# Altium footprint library ESP32WithoutAntenna.PcbLib: 1 footprints
Each footprint in its own frame and in the unit in brackets; x right, y up, seen from the top. Pads: shape width x height; smd on the part's side, far side on the other; paste and mask are expansions set on the pad; w line width, h text height; cw(c..) or ccw(c..) is an arc to the next point about the centre after c.
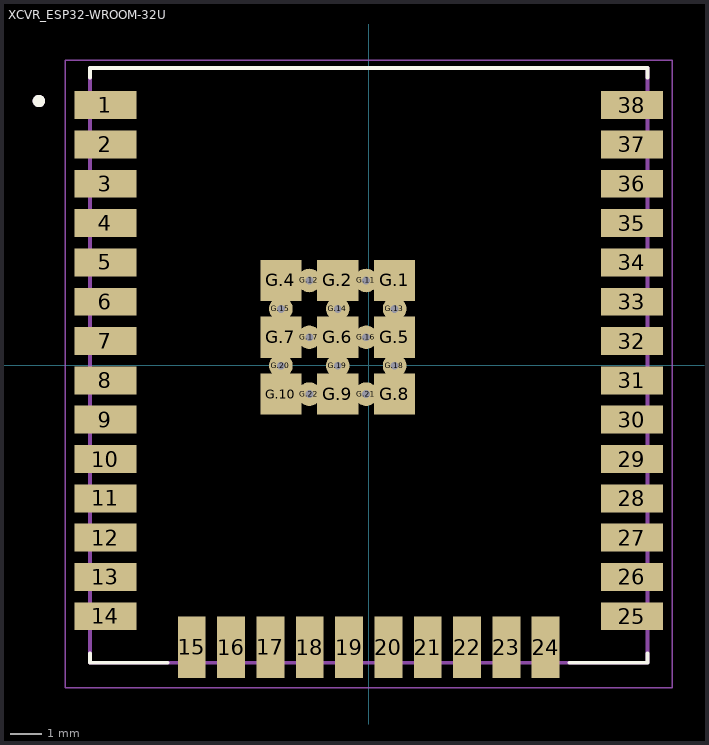
[diagram p0: the footprint, top view; thin cyan lines are the x and y axes]

## XCVR_ESP32-WROOM-32U [mm]
pads (59):
  rect 2x0.9 smd: 1(-8.5,8.41) 2(-8.5,7.14) 3(-8.5,5.87) 4(-8.5,4.6) 5(-8.5,3.33) 6(-8.5,2.06) 7(-8.5,0.79) 8(-8.5,-0.48) 9(-8.5,-1.75) 10(-8.5,-3.02) 11(-8.5,-4.29) 12(-8.5,-5.56) 13(-8.5,-6.83) 14(-8.5,-8.1) 25(8.5,-8.1) 26(8.5,-6.83) 27(8.5,-5.56) 28(8.5,-4.29) 29(8.5,-3.02) 30(8.5,-1.75) 31(8.5,-0.48) 32(8.5,0.79) 33(8.5,2.06) 34(8.5,3.33) 35(8.5,4.6) 36(8.5,5.87) 37(8.5,7.14) 38(8.5,8.41)
  rect 0.9x2 smd: 15(-5.715,-9.1) 16(-4.445,-9.1) 17(-3.175,-9.1) 18(-1.905,-9.1) 19(-0.635,-9.1) 20(0.635,-9.1) 21(1.905,-9.1) 22(3.175,-9.1) 23(4.445,-9.1) 24(5.715,-9.1)
  rect 1.33x1.33 smd: G.1(0.835,2.745) G.2(-1,2.745) G.4(-2.835,2.745) G.5(0.835,0.91) G.6(-1,0.91) G.7(-2.835,0.91) G.8(0.835,-0.925) G.9(-1,-0.925) G.10(-2.835,-0.925)
  round 0.762 hole 0.254: G.11(-0.082,2.745) G.12(-1.917,2.745) G.13(0.835,1.827) G.14(-1,1.827) G.15(-2.835,1.827) G.16(-0.082,0.91) G.17(-1.917,0.91) G.18(0.835,-0.008) G.19(-1,-0.008) G.20(-2.835,-0.008) G.21(-0.082,-0.925) G.22(-1.917,-0.925)
Top Overlay:
  circle w0.2: c-10.65,8.54 r0.1
  lines w0.127: -9,-9.3 -9,-9.6 -6.49,-9.6 ; -9,9.3 -9,9.6 9,9.6 9,9.3 ; 6.49,-9.6 9,-9.6 9,-9.3
Mechanical 13:
  circle w0.2: c-10.65,8.54 r0.1
  lines w0.127: -9,-9.6 9,-9.6 9,9.6 -9,9.6 -9,-9.6
Mechanical 15:
  lines w0.05: -9.8,-10.4 9.8,-10.4 9.8,9.85 -9.8,9.85 -9.8,-10.4